# Altium footprint library 3.07-测试点-跳线座-冷压插片.PcbLib: 81 footprints (part 2 of 6)
Each footprint in its own frame and in the unit in brackets; x right, y up, seen from the top. Pads: shape width x height; smd on the part's side, far side on the other; paste and mask are expansions set on the pad; w line width, h text height; cw(c..) or ccw(c..) is an arc to the next point about the centre after c.
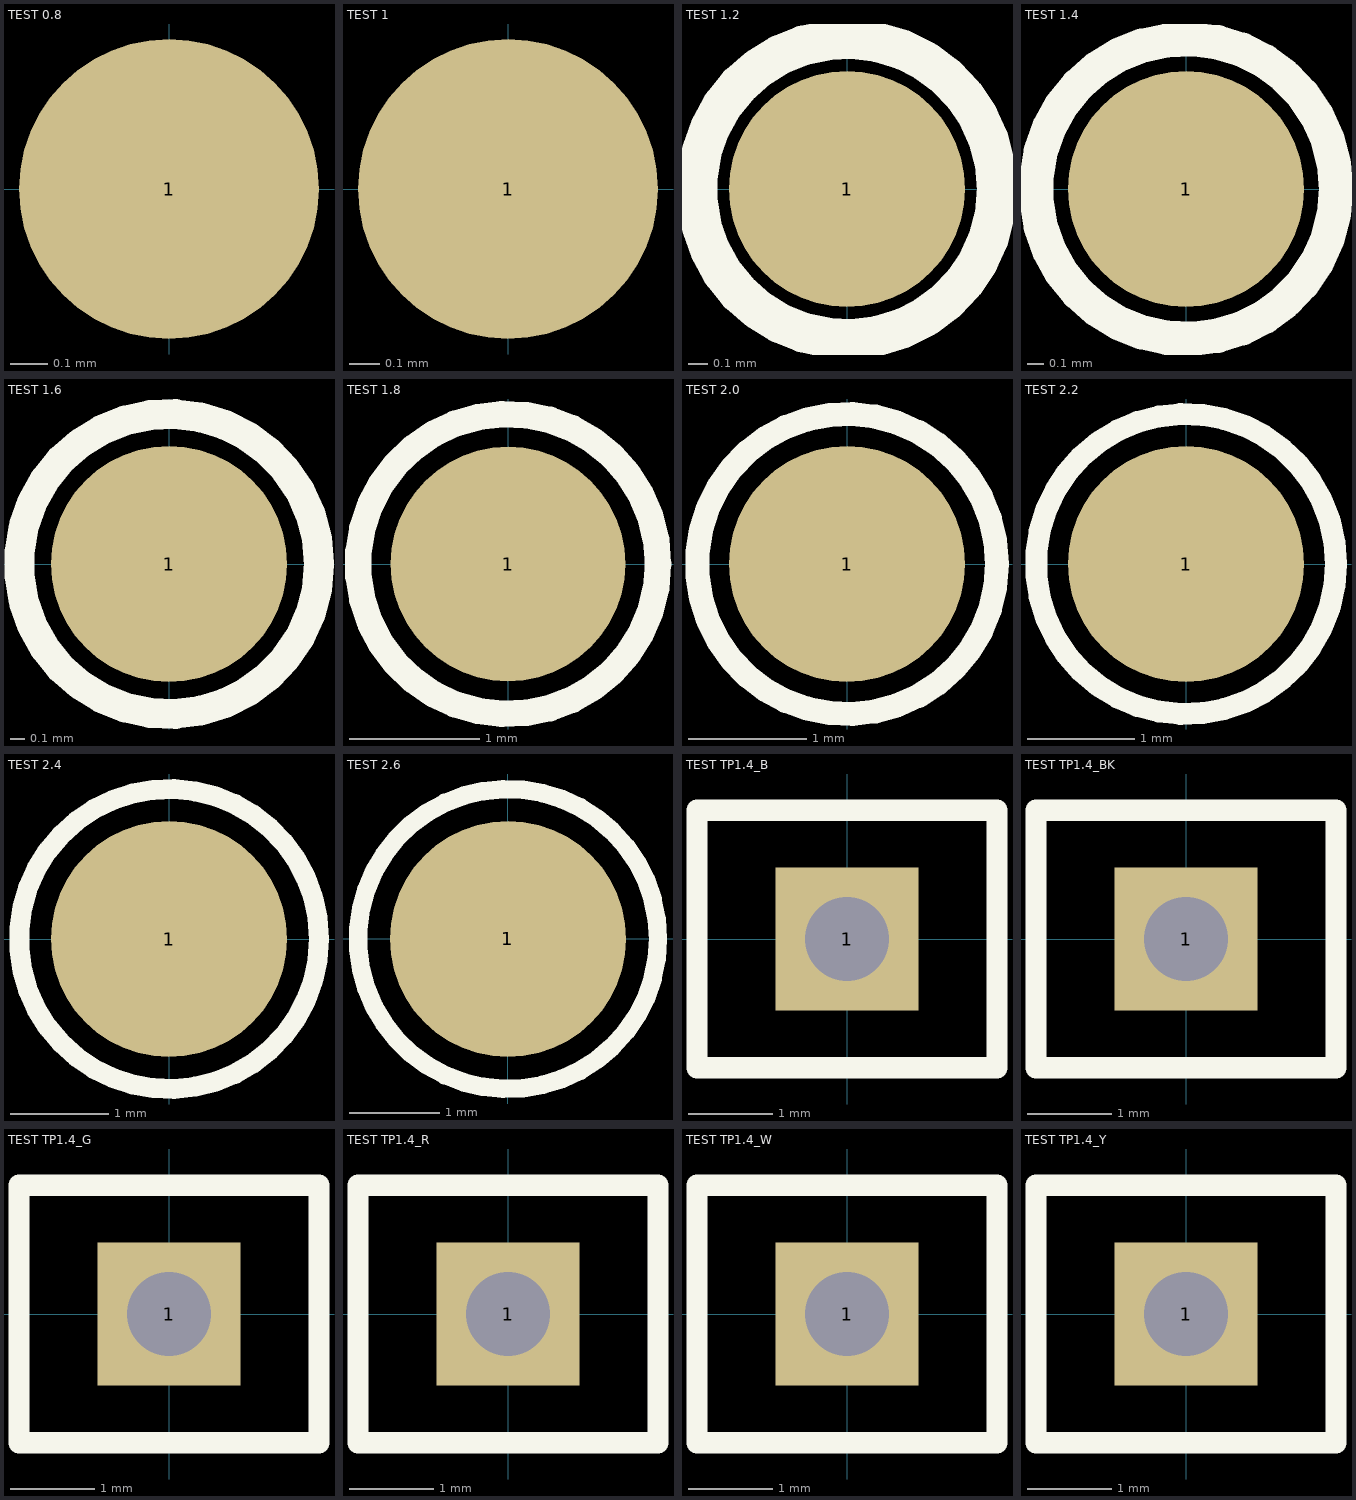
[diagram p1: the footprints below, top view; thin cyan lines are the x and y axes]

## TEST 0.8 [mm] "测试点0.8mm"
pads (1):
  round 0.8 smd: 1(0,0)

## TEST 1 [mm] "测试点1mm"
pads (1):
  round 1 smd paste-1: 1(0,0)

## TEST 1.2 [mm] "测试点1.2mm"
pads (1):
  round 1.2 smd paste-1.2: 1(0,0)
Top Overlay:
  circle w0.203: c0,0 r0.762

## TEST 1.4 [mm] "测试点1.4mm"
pads (1):
  round 1.4 smd paste-1.4: 1(0,0)
Top Overlay:
  circle w0.203: c0,0 r0.889

## TEST 1.6 [mm] "测试点1.6mm"
pads (1):
  round 1.6 smd paste-1.6: 1(0,0)
Top Overlay:
  circle w0.203: c0,0 r1.016

## TEST 1.8 [mm] "测试点1.8mm"
pads (1):
  round 1.8 smd paste-1.8: 1(0,0)
Top Overlay:
  circle w0.203: c0,0 r1.15

## TEST 2.0 [mm] "测试点2.0mm"
pads (1):
  round 2 smd paste-2: 1(0,0)
Top Overlay:
  circle w0.203: c0,0 r1.27

## TEST 2.2 [mm] "测试点2.2mm"
pads (1):
  round 2.2 smd paste-2.2: 1(0,0)
Top Overlay:
  circle w0.203: c0,0 r1.397

## TEST 2.4 [mm] "测试点2.4mm"
pads (1):
  round 2.4 smd paste-2.4: 1(0,0)
Top Overlay:
  circle w0.203: c0,0 r1.524

## TEST 2.6 [mm] "测试点2.6mm"
pads (1):
  round 2.6 smd paste-2.6: 1(0,0)
Top Overlay:
  circle w0.203: c0,0 r1.651

## TEST TP1.4_B [mm] "蓝色，测试环"
pads (1):
  rect 1.7x1.7 hole 1: 1(0,0)
Top Overlay:
  lines w0.254: -1.778,-1.524 1.778,-1.524 1.778,1.524 -1.778,1.524 -1.778,-1.524
3D body "TEST 3.5R_B.STEP": height 5.41, standoff -3.15, extent -1.673,-1.4 1.673,1.4

## TEST TP1.4_BK [mm] "黑色，测试环"
pads (1):
  rect 1.7x1.7 hole 1: 1(0,0)
Top Overlay:
  lines w0.254: -1.778,-1.524 1.778,-1.524 1.778,1.524 -1.778,1.524 -1.778,-1.524
3D body "TEST_3.5r_bk.STEP": height 2.75, standoff -5.81, extent -1.673,-1.4 1.674,1.4

## TEST TP1.4_G [mm] "绿色，测试环"
pads (1):
  rect 1.7x1.7 hole 1: 1(0,0)
Top Overlay:
  lines w0.254: -1.778,-1.524 1.778,-1.524 1.778,1.524 -1.778,1.524 -1.778,-1.524
3D body "TEST_3.5R_g.STEP": height 5.41, standoff -3.15, extent -1.673,-1.4 1.673,1.4

## TEST TP1.4_R [mm] "红色，测试环           淘宝ID:黄晶宝石"
pads (1):
  rect 1.7x1.7 hole 1: 1(0,0)
Top Overlay:
  lines w0.254: -1.778,-1.524 -1.778,1.524 1.778,1.524 1.778,-1.524 -1.778,-1.524
3D body "TEST_3.5R_R.STEP": height 5.41, standoff -3.15, extent -1.673,-1.4 1.673,1.4

## TEST TP1.4_W [mm] "白色，测试环           淘宝ID:黄晶宝石"
pads (1):
  rect 1.7x1.7 hole 1: 1(0,0)
Top Overlay:
  lines w0.254: -1.778,-1.524 1.778,-1.524 1.778,1.524 -1.778,1.524 -1.778,-1.524
3D body "TEST_3.5R_w.STEP": height 2.75, standoff -5.81, extent -1.673,-1.4 1.673,1.4

## TEST TP1.4_Y [mm] "黄色，测试环              淘宝ID:黄晶宝石"
pads (1):
  rect 1.7x1.7 hole 1: 1(0,0)
Top Overlay:
  lines w0.254: -1.778,-1.524 -1.778,1.524 1.778,1.524 1.778,-1.524 -1.778,-1.524
3D body "TEST 3.5R_Y.stp": height 5.41, standoff -3.15, extent -1.673,-1.4 1.673,1.4